# EAGLE library part TLV9354 (library Public)
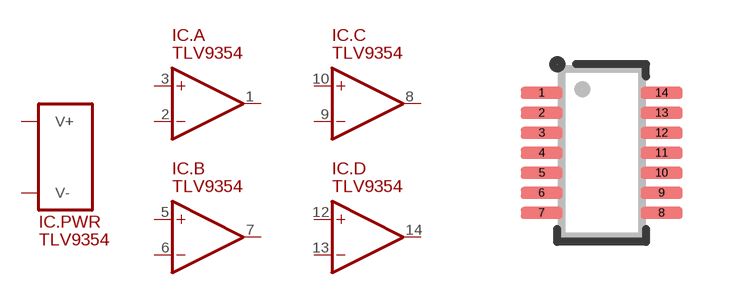
[diagram p204: symbol with the pads of SOT23-14; footprint SOT23-14]

Designator prefix IC; gates .PWR=SUPPLY_V+/V- .A=OP .B=OP .C=OP .D=OP

## TLV9354  [SOT23-14]
1  .A:OUT
2  .A:-IN
3  .A:+IN
4  .PWR:V+
5  .B:+IN
6  .B:-IN
7  .B:OUT
8  .C:OUT
9  .C:-IN
10  .C:+IN
11  .PWR:V-
12  .D:+IN
13  .D:-IN
14  .D:OUT

## Footprint SOT23-14 (pad centres in mm)
smd 1.05 x 0.3: 1 -1.5,1.5; 2 -1.5,1; 3 -1.5,0.5; 4 -1.5,0; 5 -1.5,-0.5; 6 -1.5,-1; 7 -1.5,-1.5; 8 1.5,-1.5; 9 1.5,-1; 10 1.5,-0.5; 11 1.5,0; 12 1.5,0.5; 13 1.5,1; 14 1.5,1.5